# Altium schematic symbol library P1-stick.SCHLIB: 19 symbols
Pins are listed as number, name and electrical type; pins without a type are passive.

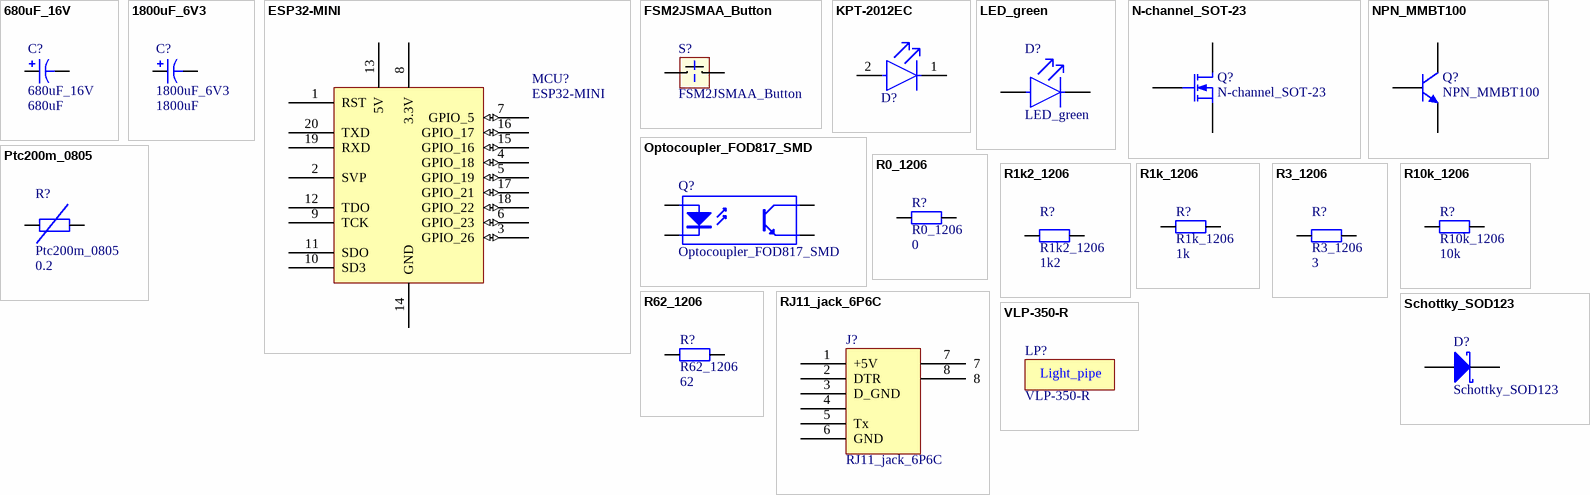
[diagram p0: symbols 680uF_16V to VLP-350-R]

## 680uF_16V
designator C?  value 680uF
Aluminum Electrolytic Capacitors - SMD LOW ESR ELECTROLYTIC CAPACITORS; Manufacturer Part Number: 16TZV680M10X10.5; Manufacturer: Rubycon; Voltage Rating: 10V; Supplier Unit Price 1: €0.68594; Supplier Part Number 1: 232-16TZV680M10X10.5; Supplier 1: Mouser; Mount: Surface Mount; Category: Aluminum Electrolytic Capacitors; Case/Package: Radial
footprint CAPAE109103X105M_680uF (Aluminum Electrolytic Capacitor, Body 10,25x10,30x10,50mm, IPC Low Density)
pins: 1, 2

## 1800uF_6V3
designator C?  value 1800uF
SMD Aluminium Electrolytic Capacitor, Radial Can, 1800 µF, 10 V, 0.092 ohm, TRV Series; Manufacturer Part Number: EEE-FN0J182UV; Manufacturer: Panasonic; Capacitance: 1.8mF; Voltage Rating: 10V; Supplier Unit Price 1: €0.98708; Supplier Part Number 1: 667-EEE-FN0J182UV; Supplier 1: Mouser; Mount: Surface Mount; Category: Aluminum Electrolytic Capacitors
footprint CAPAE109103X105M_680uF (Aluminum Electrolytic Capacitor, Body 10,25x10,30x10,50mm, IPC Low Density)
pins: 1, 2

## ESP32-MINI
designator MCU?
LilyGO TTGO T7 Mini32 V1.4 ESP32-WROVER; Manufacturer Part Number: 10129380-910002ALF; ComponentLink1Description: Manufacturer; ComponentLink1URL: https://www.tinytronics.nl/shop/nl/platforms/ttgo/lilygo-ttgo-t7-mini32-v1.4-esp32-wrover; Supplier Unit Price 1: €0.23406; Supplier Part Number 1: 649-1012938091002ALF; Supplier 1: Mouser
footprint PINHEADERS_SMD_10 (Pin Header, pitch 2.54 mm, SMD, Vertical, single row, 8p)
pins: 1 RST, 2 SVP, 3 GPIO_26 (io), 4 GPIO_18 (io), 5 GPIO_19 (io), 6 GPIO_23 (io), 7 GPIO_5 (io), 8 3.3V (power), 9 TCK, 10 SD3, 11 SDO, 12 TDO, 13 5V (power), 14 GND (power), 15 GPIO_16 (io), 16 GPIO_17 (io), 17 GPIO_21 (io), 18 GPIO_22 (io), 19 RXD, 20 TXD

## FSM2JSMAA_Button
designator S?
Tactile Switch, FSMJSM Series, Top Actuated, Surface Mount, Round Button, 260 gf, 50mA at 24VDC; Manufacturer: TE Connectivity; Connector Type: SMD/SMT; Voltage Rating (DC): 24V; Supplier Unit Price 1: €0.13022; Supplier 1: Mouser; Supplier Part Number 1: 506-2-1437565-8; Mount: Surface Mount; Manufacturer Part Number: FSM2JSMAA; Category: Pushbutton Switches; Case/Package: SMD/SMT
footprint FP-FSM2JSMAA-MFG
pins: 1 a, 2 b, 3 c "connected to a", 4 d "connected to b"

## KPT-2012EC
designator D?, comment red led  (value not drawn)
KPT-2012EC -  LED, Low Power, Red, SMD, 0805 [2012 Metric], 30 mA, 2 V, 617 nm; Manufacturer Part Number: AP2012SRCPRV; Manufacturer: Kingbright; Forward Voltage: 1.85V; Forward Current: 20mA; Supplier Part Number 1: 604-AP2012SRCPRV; Supplier 1: Mouser; Mount: Surface Mount; Illumination Color: Red; Color: Red; Category: LEDs; Case/Package: 0805
footprint Kingbright_KPT-2012EC_0
pins: 1 C, 2 A

## LED_green
designator D?
Standard LEDs - SMD GRN WATER CLEAR 0805; Manufacturer: Kingbright; Manufacturer Part Number: AP2012MGC; Color: Green; Forward Current: 20mA; Forward Voltage: 2.1V; Case/Package: 0805; Category: LEDs; Supplier 1: Mouser; Supplier Part Number 1: 604-AP2012MGC
footprint Kingbright_KPT-2012EC_0
pins: 1 C, 2 A

## N-channel_SOT-23
designator Q?
Power MOSFET, N Channel, 60 V, 260 mA, 1 ohm, SOT-23, Surface Mount; Manufacturer Part Number: NTR5103NT1G; Manufacturer: ON Semiconductor; Max Power Dissipation: 300mW; FET Type: 1 N-Channel; Supplier Unit Price 1: €0.14925; Supplier Part Number 1: 863-NTR5103NT1G; Supplier 1: Mouser; Mount: Surface Mount; Category: MOSFETs; Case/Package: SOT-23-3
footprint SOT95P237X110-3N (SOT23, 3-Leads, Body 2,92x2,37mm, Pitch 0,95mm, IPC Medium Density)
pins: 1 D, 2 G, 3 S

## NPN_MMBT100
designator Q?
Bipolar (BJT) Single Transistor, NPN, 45 V, 500 mA, 350 mW, SOT-23, Surface Mount; Manufacturer: ON Semiconductor / Fairchild; Voltage Rating (DC): 45V; Power Dissipation: 350mW; Max Frequency: 1MHz; Max Collector Current: 500mA; hFE Min: 100; Emitter Base Voltage (VEBO): 6V; Supplier Unit Price 1: €0.15259; Supplier Part Number 1: 512-MMBT100; Supplier 1: Mouser; Polarity: NPN; Mount: Surface Mount; Max Power Dissipation: 350mW; Manufacturer Part Number: MMBT100; Max Breakdown Voltage: 45V; Collector Emitter Voltage (VCEO): 45V; Category: BJTs
footprint SOT95P245X110-3N (SOT23, 3-Leads, Body 2,90x2,45mm, Pitch 0,95mm, IPC Medium Density)
pins: 1 E, 2 B, 3 C

## Optocoupler_FOD817_SMD
designator Q?
Optocoupler, Transistor Output, 1 Channel, Surface Mount DIP, 4 Pins, 50 mA, 5 kV, 200 %; Manufacturer Part Number: FOD817C3SD; Manufacturer: ON Semiconductor / Fairchild; Max Power Dissipation: 200mW; Forward Voltage: 1.4V; Supplier Unit Price 1: €0.45665; Supplier Part Number 1: 512-FOD817C3SD; Supplier 1: Mouser; Mount: Surface Mount; Category: Optocouplers; Case/Package: SMD/SMT
footprint FOD814_DIPSMD
pins: 1 A "Anode", 2 K "Cathode", 3 E "Emitter", 4 C "Collector"

## Ptc200m_0805
designator R?  value 0.2
Thermistor, PTC, SMD, 0805, 0.2 OHM; Manufacturer Part Number: PRG21BC0R2MM1RA; Manufacturer: Murata; Hold Current: 500mA; Resistance: 200mR; Tolerance: 20%; Supplier Unit Price 1: €0.44997; Supplier 1: Mouser; Supplier Part Number 1: 81-PRG21BC0R2MM1RA; Termination: SMD/SMT; Mount: Surface Mount; Category: PTC Resettable Fuses; Case/Package: 0805; Case Code (Imperial): 0805; Case Code (Metric): 2012
footprint R0805
pins: 1, 2

## R0_1206
designator R?  value 0
footprint R1206
pins: 1, 2

## R1k2_1206
designator R?  value 1k2
Thick Film Resistors - SMD 1206 1.2Kohms 1% AEC-Q200; Manufacturer: Panasonic; Manufacturer Part Number: ERJ-8ENF1201V; Max Power Dissipation: 250mW; Resistance: 1.2kR; Supplier 1: Mouser; Supplier Part Number 1: 667-ERJ-8ENF1201V; Supplier Unit Price 1: €0.08359; Case/Package: 1206; Case Code (Imperial): 1206; Category: Chip SMD Resistors; Mount: Surface Mount; Power Rating: 250mW; Tolerance: 1%
footprint R1206
pins: 1, 2

## R1k_1206
designator R?  value 1k
Thick Film Resistors - SMD 1206 1Kohms 1% Tol AEC-Q200; Manufacturer Part Number: ERJ-8ENF1001V; Manufacturer: Panasonic; Power Rating: 250mW; Supplier Unit Price 1: €0.01325; Supplier Part Number 1: 667-ERJ-8ENF1001V; Supplier 1: Mouser; Tolerance: 1%; Mount: Surface Mount; Case Code (Imperial): 1206; Case Code (Metric): 3216; Case/Package: 1206; Category: Chip SMD Resistors; Max Power Dissipation: 250mW
footprint R1206
pins: 1, 2

## R3_1206
designator R?  value 3
Current Sense Resistors - SMD 1206 3.0ohm 1% Curr Sense AEC-Q200; Manufacturer Part Number: ERJ8RQF3R0V; Manufacturer: Panasonic; Power Rating: 250mW; Supplier 1: Mouser; Supplier Part Number 1: 667-ERJ-8RQF3R0V; Case/Package: 1206; Supplier Unit Price 1: €0.45139; Case Code (Imperial): 1206; Case Code (Metric): 3216; Category: Chip SMD Resistors; Mount: Surface Mount; Tolerance: 1%
footprint R1206
pins: 1, 2

## R10k_1206
designator R?  value 10k
Thick Film Resistors - SMD 1206 10Kohms 1% AEC-Q200; Manufacturer Part Number: ERJ-8ENF1002V; Manufacturer: Panasonic; Power Rating: 250mW; Supplier Unit Price 1: €0.01214; Supplier Part Number 1: 667-ERJ-8ENF1002V; Supplier 1: Mouser; Tolerance: 1%; Case Code (Imperial): 1206; Case Code (Metric): 3216; Case/Package: 1206; Category: Chip SMD Resistors; Max Power Dissipation: 250mW; Mount: Surface Mount
footprint R1206
pins: 1, 2

## R62_1206
designator R?  value 62
Thick Film Resistors - SMD 1206 62ohms 1% AEC-Q200; Manufacturer Part Number: ERJ-8ENF62R0V; Manufacturer: Panasonic; Max Power Dissipation: 250mW; Supplier Unit Price 1: €0.00512; Supplier Part Number 1: 667-ERJ-8ENF62R0V; Supplier 1: Mouser; Tolerance: 1%; Mount: Surface Mount; Case Code (Imperial): 1206; Case Code (Metric): 3216; Case/Package: 1206; Category: Chip SMD Resistors
footprint R1206
pins: 1, 2

## RJ11_jack_6P6C
designator J?
Modular Connector, RJ11 Jack, 1 x 1 (Port), 6P6C, Cat3, Surface Mount; Manufacturer Part Number: 44144-0005; Manufacturer: Molex; Gender: Female; Supplier Unit Price 1: €1.14; Supplier Part Number 1: 538-44144-0005; Supplier 1: Mouser; Termination: SMD/SMT; Mount: Surface Mount; Category: Modular / Ethernet Connectors; Supplier Packaging 1: Cut Tape
footprint 44144-0005
pins: 1 +5V (power), 2 DTR, 3 D_GND (power), 4, 5 Tx, 6 GND (power), 7, 8

## Schottky_SOD123
designator D?
Schottky Rectifier, 20 V, 500 mA, Single, SOD-123, 2 Pins, 320 mV; Manufacturer Part Number: STPS0520Z; Manufacturer: STMicroelectronics; Peak Non-Repetitive Surge Current: 5.5A; Output Current: 500mA; Max Reverse Voltage (DC): 20V; Forward Voltage: 320mV; Supplier Unit Price 1: €0.21607; Supplier Part Number 1: 511-STPS0520Z; Supplier 1: Mouser; Mount: Surface Mount; Forward Current: 500mA; Category: Rectifier Diodes
footprint Diode_SOD-123; pin to pad 1>K 2>A
pins: 1 K, 2 A

## VLP-350-R
designator LP?
LIGHT PIPE, SINGLE, ROUND, PCB; Manufacturer: BIVAR; Manufacturer Part Number: VLP-350-R
footprint VLP-350-R
text: Light_pipe